# EAGLE library part ROCKETNET-CONNECTOR-16 (library rocketnet-connector)
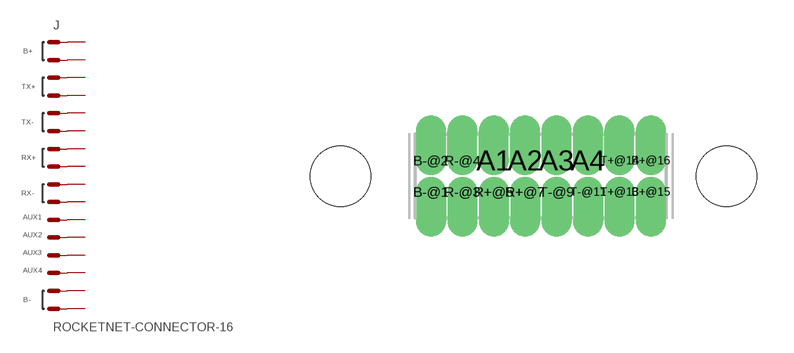
[diagram p0: symbol with the pads of ROCKETNET-M-16; footprint ROCKETNET-M-16]

Designator prefix J

## ROCKETNET-CONNECTOR-16M  [ROCKETNET-M-16]
A1  AUX1  pas
A2  AUX2  pas
A3  AUX3  pas
A4  AUX4  pas
B+@15  B+  pwr
B+@16  B+  pwr
B-@1  B-  pwr
B-@2  B-  pwr
R+@5  RX+  pas
R+@7  RX+  pas
R-@3  RX-  pas
R-@4  RX-  pas
T+@13  TX+  pas
T+@14  TX+  pas
T-@9  TX-  pas
T-@11  TX-  pas

## Footprint ROCKETNET-M-16 (pad centres in mm)
drill 0.71 pad 0.95 offset: A1 -1.905,0.635; A2 -0.635,0.635; A3 0.635,0.635; A4 1.905,0.635; B+@15 4.445,-0.635; B+@16 4.445,0.635; B-@1 -4.445,-0.635; B-@2 -4.445,0.635; R+@5 -1.905,-0.635; R+@7 -0.635,-0.635; R-@3 -3.175,-0.635; R-@4 -3.175,0.635; T+@13 3.175,-0.635; T+@14 3.175,0.635; T-@9 0.635,-0.635; T-@11 1.905,-0.635
hole 2.438 at 7.5,0
hole 2.438 at -8.1,0